# EAGLE library part L78L (library counter)
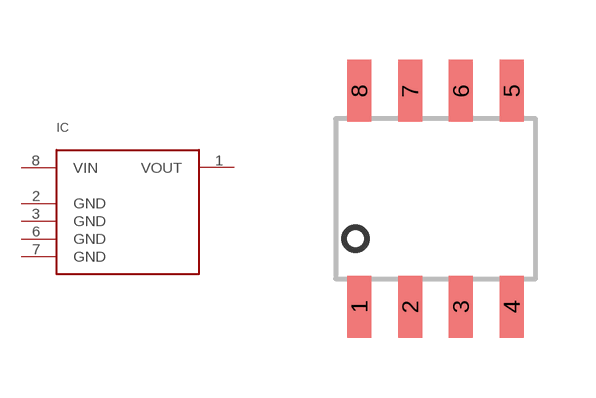
[diagram p7: symbol with the pads of SOIC8; footprint SOIC8]

Designator prefix IC

## L78L, L78L05 (PARTNO: L78L05ABD13TR)  [SOIC8]
1  VOUT
2  GND
3  GND
6  GND
7  GND
8  VIN

## Footprint SOIC8 (pad centres in mm)
smd 0.6 x 1.55: 1 -1.905,-2.7; 2 -0.635,-2.7; 3 0.635,-2.7; 4 1.905,-2.7; 5 1.905,2.7; 6 0.635,2.7; 7 -0.635,2.7; 8 -1.905,2.7